# EAGLE library part THS5661A (library components)
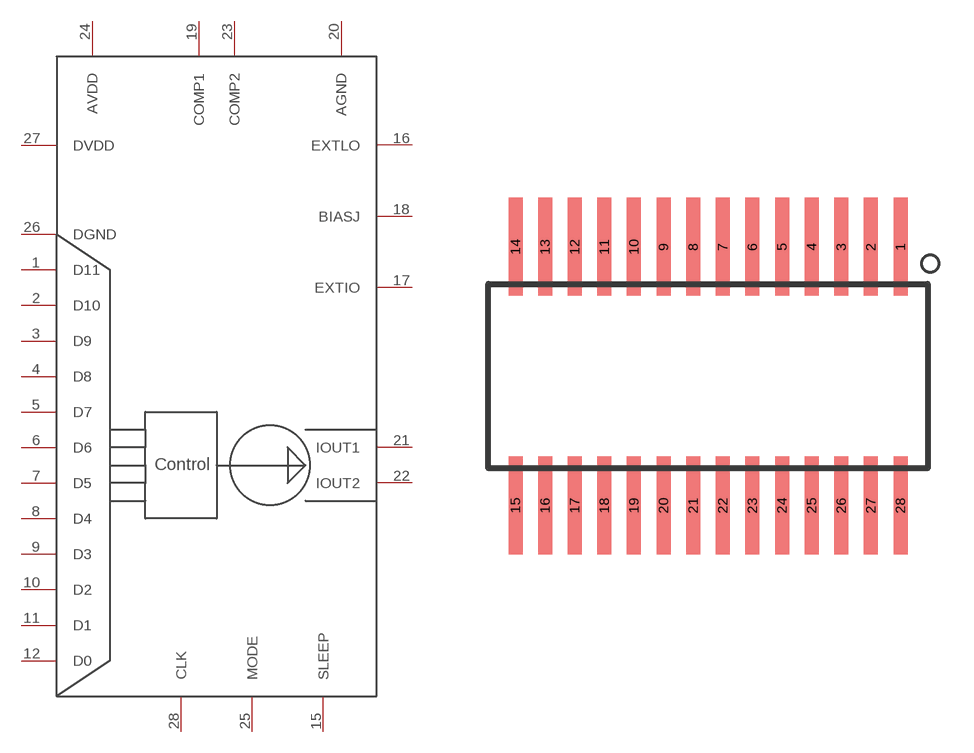
[diagram p6: symbol with the pads of SOIC-28; footprint SOIC-28]

Designator prefix -

## THS5661ASOIC28  [SOIC-28]
1  D11
2  D10
3  D9
4  D8
5  D7
6  D6
7  D5
8  D4
9  D3
10  D2
11  D1
12  D0
15  SLEEP
16  EXTLO
17  EXTIO
18  BIASJ
19  COMP1
20  AGND
21  IOUT1
22  IOUT2
23  COMP2
24  AVDD
25  MODE
26  DGND
27  DVDD
28  CLK

## Footprint SOIC-28 (pad centres in mm)
smd 0.6 x 4.2: 1 8.89,5.548; 2 7.62,5.548; 3 6.35,5.548; 4 5.08,5.548; 5 3.81,5.548; 6 2.54,5.548; 7 1.27,5.548; 8 0,5.548; 9 -1.27,5.548; 10 -2.54,5.548; 11 -3.81,5.548; 12 -5.08,5.548; 13 -6.35,5.548; 14 -7.62,5.548; 15 -7.62,-5.548; 16 -6.35,-5.548; 17 -5.08,-5.548; 18 -3.81,-5.548; 19 -2.54,-5.548; 20 -1.27,-5.548; 21 0,-5.548; 22 1.27,-5.548; 23 2.54,-5.548; 24 3.81,-5.548; 25 5.08,-5.548; 26 6.35,-5.548; 27 7.62,-5.548; 28 8.89,-5.548